# EAGLE library part GKHEAD_K (library 029000100  -  gKEagleLibrary)
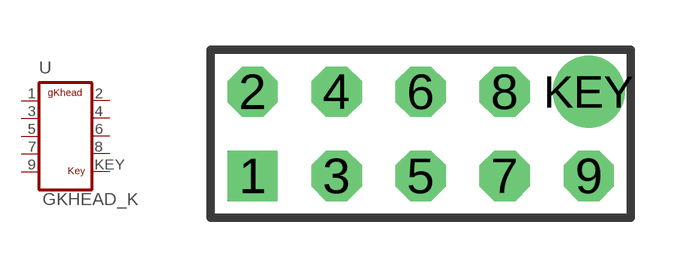
[diagram p5: symbol with the pads of HEAD10_K; footprint HEAD10_K]

Designator prefix -

## GKHEAD_K  [HEAD10_K]
1  1  pas
2  2  pwr
3  3  pas
4  4  pas
5  5  pas
6  6  pas
7  7  pas
8  8  pas
9  9  pwr
KEY  KEY  nc

## Footprint HEAD10_K (pad centres in mm)
drill 1.016 square: 1 1.27,1.27
drill 1.016 octagon: 2 1.27,3.81; 3 3.81,1.27; 4 3.81,3.81; 5 6.35,1.27; 6 6.35,3.81; 7 8.89,1.27; 8 8.89,3.81; 9 11.43,1.27
drill 1.016 pad 2.184: KEY 11.43,3.81